# Altium schematic symbol library uln2803.SchLib: 1 symbol
Pins are listed as number, name and electrical type; pins without a type are passive.

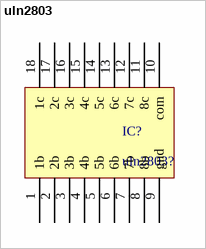
[diagram p0: symbol uln2803]

## uln2803
designator IC?, comment uln2803?
pins: 1 1b, 2 2b, 3 3b, 4 4b, 5 5b, 6 6b, 7 7b, 8 8b, 9 gnd, 10 com, 11 8c, 12 7c, 13 6c, 14 5c, 15 4c, 16 3c, 17 2c, 18 1c